# EAGLE library part LM3914 (library rnie04)
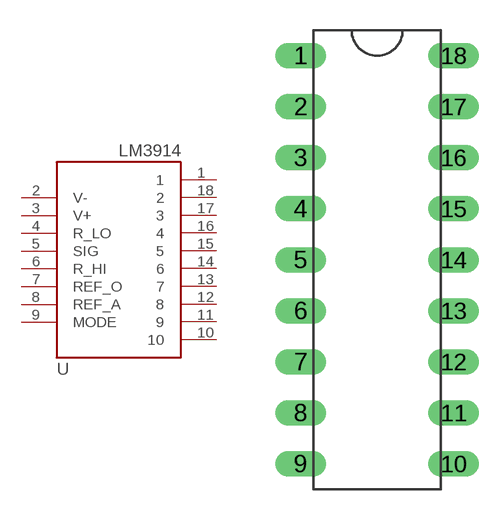
[diagram p1: symbol with the pads of DIL18; footprint DIL18]

Designator prefix -

## LM3914  [DIL18]
1  1
2  V-  pwr
3  V+  pwr
4  R_LO
5  SIG
6  R_HI
7  REF_O
8  REF_A
9  MODE
10  10
11  9
12  8
13  7
14  6
15  5
16  4
17  3
18  2

## Footprint DIL18 (pad centres in mm)
drill 0.5 pad 1.27 long: 1 -3.81,11.43; 2 -3.81,8.89; 3 -3.81,6.35; 4 -3.81,3.81; 5 -3.81,1.27; 6 -3.81,-1.27; 7 -3.81,-3.81; 8 -3.81,-6.35; 9 -3.81,-8.89; 10 3.81,-8.89; 11 3.81,-6.35; 12 3.81,-3.81; 13 3.81,-1.27; 14 3.81,1.27; 15 3.81,3.81; 16 3.81,6.35; 17 3.81,8.89; 18 3.81,11.43